# Altium footprint library MODULE_2472.PcbLib: 1 footprints
Each footprint in its own frame and in the unit in brackets; x right, y up, seen from the top. Pads: shape width x height; smd on the part's side, far side on the other; paste and mask are expansions set on the pad; w line width, h text height; cw(c..) or ccw(c..) is an arc to the next point about the centre after c.
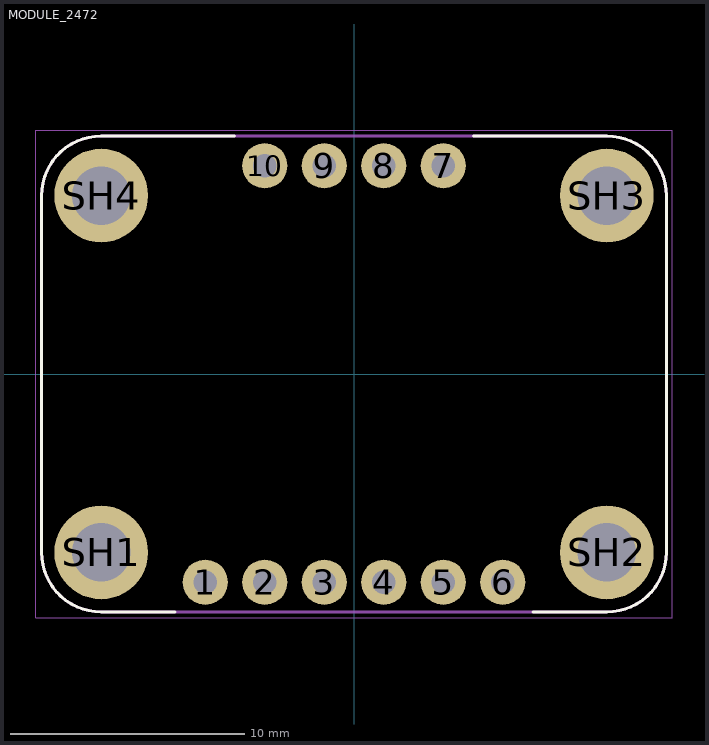
[diagram p0: the footprint, top view; thin cyan lines are the x and y axes]

## MODULE_2472 [mm]
pads (14):
  round 1.93 hole 1: 1(-6.35,-8.89) 2(-3.81,-8.89) 3(-1.27,-8.89) 4(1.27,-8.89) 5(3.81,-8.89) 6(6.35,-8.89) 7(3.81,8.89) 8(1.27,8.89) 9(-1.27,8.89) 10(-3.81,8.89)
  round 4 hole 2.5: SH1(-10.795,-7.62) SH2(10.795,-7.62) SH3(10.795,7.62) SH4(-10.795,7.62)
Top Overlay:
  lines w0.127: -7.635,-10.16 -10.795,-10.16 cw(c-10.795,-7.62) -13.335,-7.62 -13.335,7.62 cw(c-10.795,7.62) -10.795,10.16 -5.095,10.16 ; 5.095,10.16 10.795,10.16 cw(c10.795,7.62) 13.335,7.62 13.335,-7.62 cw(c10.795,-7.62) 10.795,-10.16 7.635,-10.16
Mechanical 13:
  lines w0.127: -13.335,-7.62 ccw(c-10.795,-7.62) -10.795,-10.16 10.795,-10.16 ccw(c10.795,-7.62) 13.335,-7.62 13.335,7.62 ccw(c10.795,7.62) 10.795,10.16 -10.795,10.16 ccw(c-10.795,7.62) -13.335,7.62 -13.335,-7.62
Mechanical 15:
  lines w0.05: -13.585,-10.41 -13.585,10.41 13.585,10.41 13.585,-10.41 -13.585,-10.41
3D body "step_temp.STEP": height 4.23, standoff 0, extent -13.335,-10.16 13.335,10.16